# EAGLE library part NRF24L01 (library RoboJackets-RF)
IC RF TXRX ISM>1GHZ 20VFQFN Datasheet <https://media.digikey.com/pdf/Data%20Sheets/Nordic%20Semiconductor%20PDFs/nRF24L01_PS_July2007.pdf>
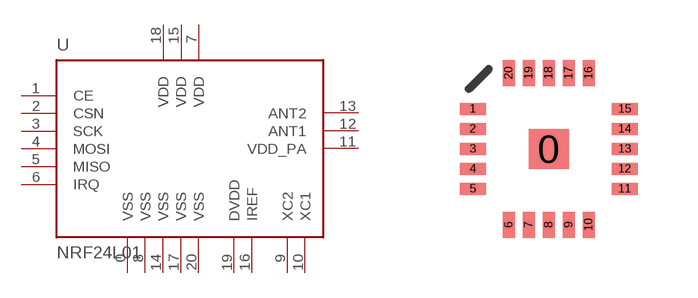
[diagram p1: symbol with the pads of QFN20; footprint QFN20]

Designator prefix U

## NRF24L01 (DKPN: NRF24L01-ND)  [QFN20]
0  VSS  pas
1  CE  pas
2  CSN  pas
3  SCK  pas
4  MOSI  pas
5  MISO  pas
6  IRQ  pas
7  VDD  pas
8  VSS  pas
9  XC2  pas
10  XC1  pas
11  VDD_PA  pas
12  ANT1  pas
13  ANT2  pas
14  VSS  pas
15  VDD  pas
16  IREF  pas
17  VSS  pas
18  VDD  pas
19  DVDD  pas
20  VSS  pas

## Footprint QFN20 (pad centres in mm)
smd 1 x 1: 0 0,0
smd 0.65 x 0.3: 1 -1.9,1; 2 -1.9,0.5; 3 -1.9,0; 4 -1.9,-0.5; 5 -1.9,-1; 11 1.9,-1; 12 1.9,-0.5; 13 1.9,0; 14 1.9,0.5; 15 1.9,1
smd 0.3 x 0.65: 6 -1,-1.9; 7 -0.5,-1.9; 8 0,-1.9; 9 0.5,-1.9; 10 1,-1.9; 16 1,1.9; 17 0.5,1.9; 18 0,1.9; 19 -0.5,1.9; 20 -1,1.9